# Altium schematic symbol library DESDA5V3L.SchLib: 1 symbol
Pins are listed as number, name and electrical type; pins without a type are passive.

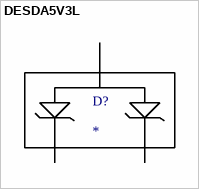
[diagram p0: symbol DESDA5V3L]

## DESDA5V3L
designator D?
PartNumber: DESDA5V3L-7; Manufacture: Diodes Inc; Supplier 1: Digi-Key; Supplier Part Number 1: DESDA5V3LDICT-ND
footprint SOT-23
pins: 1, 2, 3